# EAGLE library part HD-N106 (library DISPLAY_HP)
LED DISPLAY + - 1/2 character, decimal point right
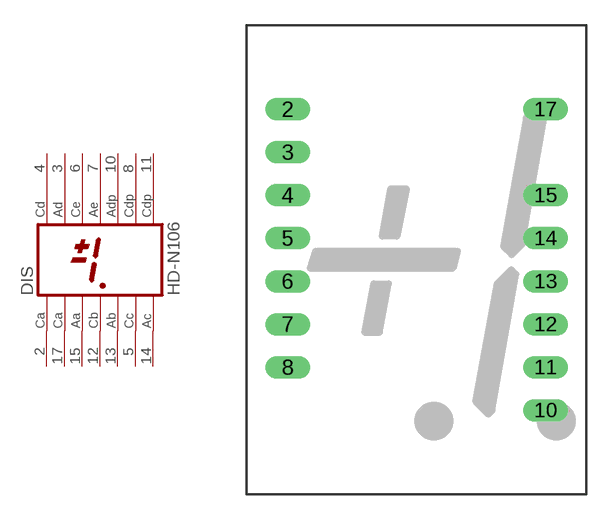
[diagram p31: symbol with the pads of HDSP-W; footprint HDSP-W]

Designator prefix DIS

## HD-N106  [HDSP-W]
2  CA  pas
3  AD  pas
4  CD  pas
5  CC  pas
6  CE  pas
7  AE  pas
8  CDP  pas
10  ADP  pas
11  CDP  pas
12  CB  pas
13  AB  pas
14  AC  pas
15  AA  pas
17  CA  pas

## Footprint HDSP-W (pad centres in mm)
LED DISPLAY 20-mm + - 1/2 character, 2 decimal points
drill 0.813 long: 2 -7.62,8.89; 3 -7.62,6.35; 4 -7.62,3.81; 5 -7.62,1.27; 6 -7.62,-1.27; 7 -7.62,-3.81; 8 -7.62,-6.35; 10 7.62,-8.89; 11 7.62,-6.35; 12 7.62,-3.81; 13 7.62,-1.27; 14 7.62,1.27; 15 7.62,3.81; 17 7.62,8.89